# Altium integrated library M20-9770346-3.IntLib: 1 symbol
Pins are listed as number, name and electrical type; pins without a type are passive.

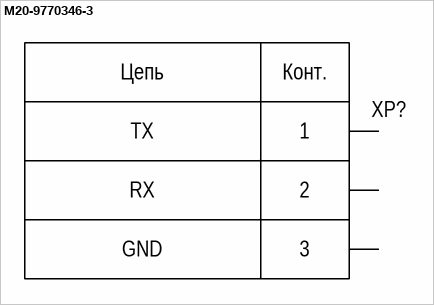
[diagram p0: symbol M20-9770346-3]

## M20-9770346-3
designator XP?  (value not drawn)
Header 2.54mm
footprint HDRV3W64P254_1X3_762X254X834P (Connector, 3-Leads, Body 7.62x2.54mm, IPC Medium Density)
pins: 1 TX, 2 RX, 3 GND
text: Цепь; Конт.